# Altium footprint library Nimb_Ring_2_0.PcbLib: 49 footprints (part 4 of 4)
Each footprint in its own frame and in the unit in brackets; x right, y up, seen from the top. Pads: shape width x height; smd on the part's side, far side on the other; paste and mask are expansions set on the pad; w line width, h text height; cw(c..) or ccw(c..) is an arc to the next point about the centre after c.
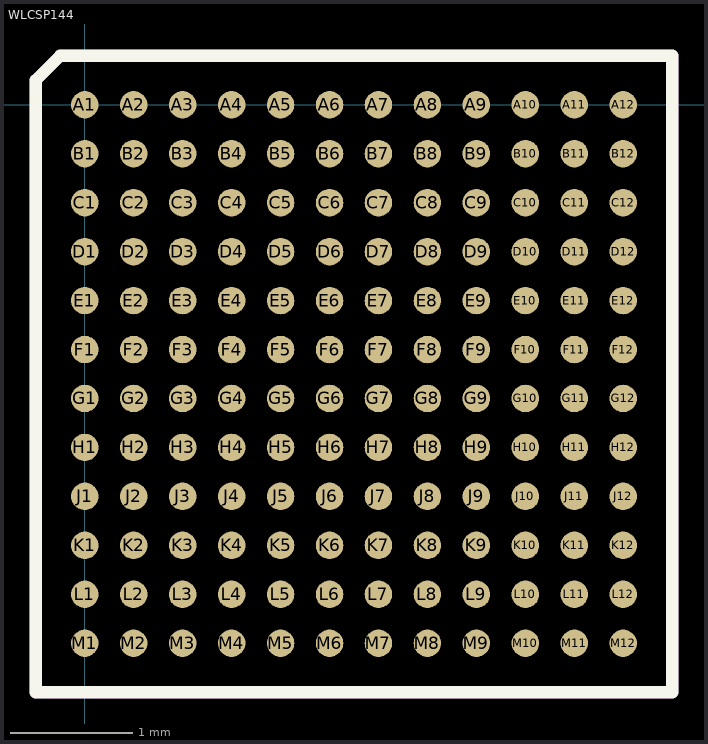
[diagram p3: the footprint, top view; thin cyan lines are the x and y axes]

## WLCSP144 [mm]
pads (144):
  round 0.225 smd: A1(0,0) A2(0.4,0) A3(0.8,0) A4(1.2,0) A5(1.6,0) A6(2,0) A7(2.4,0) A8(2.8,0) A9(3.2,0) A10(3.6,0) A11(4,0) A12(4.4,0) B1(0,-0.4) B2(0.4,-0.4) B3(0.8,-0.4) B4(1.2,-0.4) B5(1.6,-0.4) B6(2,-0.4) B7(2.4,-0.4) B8(2.8,-0.4) B9(3.2,-0.4) B10(3.6,-0.4) B11(4,-0.4) B12(4.4,-0.4) C1(0,-0.8) C2(0.4,-0.8) C3(0.8,-0.8) C4(1.2,-0.8) C5(1.6,-0.8) C6(2,-0.8) C7(2.4,-0.8) C8(2.8,-0.8) C9(3.2,-0.8) C10(3.6,-0.8) C11(4,-0.8) C12(4.4,-0.8) D1(0,-1.2) D2(0.4,-1.2) D3(0.8,-1.2) D4(1.2,-1.2) D5(1.6,-1.2) D6(2,-1.2) D7(2.4,-1.2) D8(2.8,-1.2) D9(3.2,-1.2) D10(3.6,-1.2) D11(4,-1.2) D12(4.4,-1.2) E1(0,-1.6) E2(0.4,-1.6) E3(0.8,-1.6) E4(1.2,-1.6) E5(1.6,-1.6) E6(2,-1.6) E7(2.4,-1.6) E8(2.8,-1.6) E9(3.2,-1.6) E10(3.6,-1.6) E11(4,-1.6) E12(4.4,-1.6) F1(0,-2) F2(0.4,-2) F3(0.8,-2) F4(1.2,-2) F5(1.6,-2) F6(2,-2) F7(2.4,-2) F8(2.8,-2) F9(3.2,-2) F10(3.6,-2) F11(4,-2) F12(4.4,-2) G1(0,-2.4) G2(0.4,-2.4) G3(0.8,-2.4) G4(1.2,-2.4) G5(1.6,-2.4) G6(2,-2.4) G7(2.4,-2.4) G8(2.8,-2.4) G9(3.2,-2.4) G10(3.6,-2.4) G11(4,-2.4) G12(4.4,-2.4) H1(0,-2.8) H2(0.4,-2.8) H3(0.8,-2.8) H4(1.2,-2.8) H5(1.6,-2.8) H6(2,-2.8) H7(2.4,-2.8) H8(2.8,-2.8) H9(3.2,-2.8) H10(3.6,-2.8) H11(4,-2.8) H12(4.4,-2.8) J1(0,-3.2) J2(0.4,-3.2) J3(0.8,-3.2) J4(1.2,-3.2) J5(1.6,-3.2) J6(2,-3.2) J7(2.4,-3.2) J8(2.8,-3.2) J9(3.2,-3.2) J10(3.6,-3.2) J11(4,-3.2) J12(4.4,-3.2) K1(0,-3.6) K2(0.4,-3.6) K3(0.8,-3.6) K4(1.2,-3.6) K5(1.6,-3.6) K6(2,-3.6) K7(2.4,-3.6) K8(2.8,-3.6) K9(3.2,-3.6) K10(3.6,-3.6) K11(4,-3.6) K12(4.4,-3.6) L1(0,-4) L2(0.4,-4) L3(0.8,-4) L4(1.2,-4) L5(1.6,-4) L6(2,-4) L7(2.4,-4) L8(2.8,-4) L9(3.2,-4) L10(3.6,-4) L11(4,-4) L12(4.4,-4) M1(0,-4.4) M2(0.4,-4.4) M3(0.8,-4.4) M4(1.2,-4.4) M5(1.6,-4.4) M6(2,-4.4) M7(2.4,-4.4) M8(2.8,-4.4) M9(3.2,-4.4) M10(3.6,-4.4) M11(4,-4.4) M12(4.4,-4.4)
Top Overlay:
  lines w0.1: -0.4,-4.8 4.8,-4.8 4.8,0.4 -0.2,0.4 -0.4,0.2 -0.4,-4.8
Mechanical 15:
  lines w0.1: -0.4,-4.8 -0.4,0.2 -0.2,0.4 4.8,0.4 4.8,-4.8 -0.4,-4.8
3D body: height 0.6, standoff 0, extent -0.425,-4.825 4.825,0.425